# Altium footprint library Pcb_Bridges.PcbLib: 1 footprints
Each footprint in its own frame and in the unit in brackets; x right, y up, seen from the top. Pads: shape width x height; smd on the part's side, far side on the other; paste and mask are expansions set on the pad; w line width, h text height; cw(c..) or ccw(c..) is an arc to the next point about the centre after c.
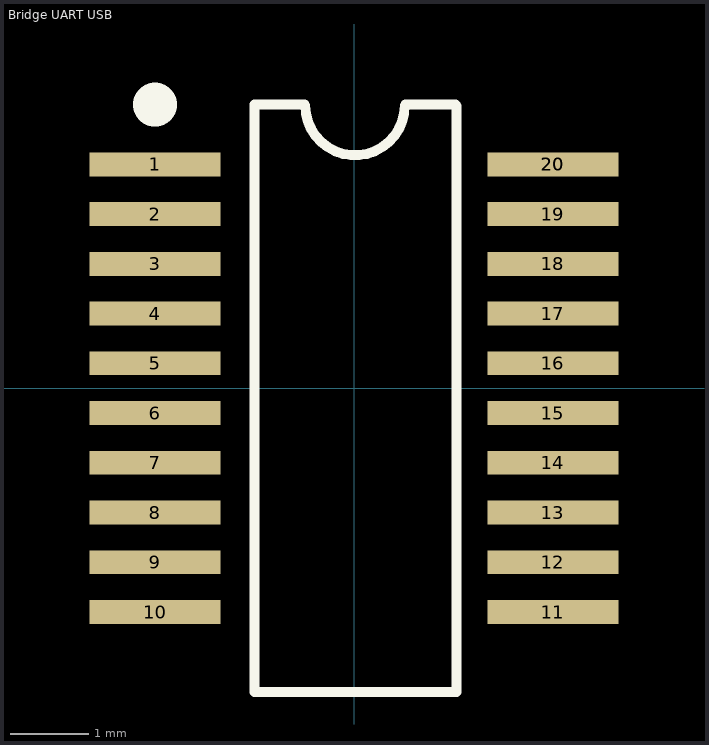
[diagram p0: the footprint, top view; thin cyan lines are the x and y axes]

## Bridge UART USB [mil] "Bridge UART USB"
pads (21):
  rect 66x12 smd: 1(-100,112.5) 2(-100,87.5) 3(-100,62.5) 4(-100,37.5) 5(-100,12.5) 6(-100,-12.5) 7(-100,-37.5) 8(-100,-62.5) 9(-100,-87.5) 10(-100,-112.5) 11(100,-112.5) 12(100,-87.5) 13(100,-62.5) 14(100,-37.5) 15(100,-12.5) 16(100,12.5) 17(100,37.5) 18(100,62.5) 19(100,87.5) 20(100,112.5) 20(100,112.5)
Top Overlay:
  circle w20: c-100,142.5 r1
  lines w5: -24.75,142.5 -50,142.5 -50,-152.78 51.57,-152.78 51.57,141.93 51,142.5 25.75,142.5 ; -24.5,142.03 ccw(c0.5,142.03) 25.5,142.03